# Altium schematic symbol library TSOP62xx.SchLib: 1 symbol
Pins are listed as number, name and electrical type; pins without a type are passive.

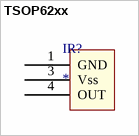
[diagram p0: symbol TSOP62xx]

## TSOP62xx
designator IR?
footprint TSOP62xx
pins: 1 GND, 3 Vss, 4 OUT